# EAGLE library part LMZ14201HTZ (library parts)
TEXAS INSTRUMENTS - LMZ14201HTZ - POWER MODULE, 42V, 1A, 7TOPMOD Source: Datasheet <http://www.ti.com/lit/ds/symlink/lmz14201h.pdf>
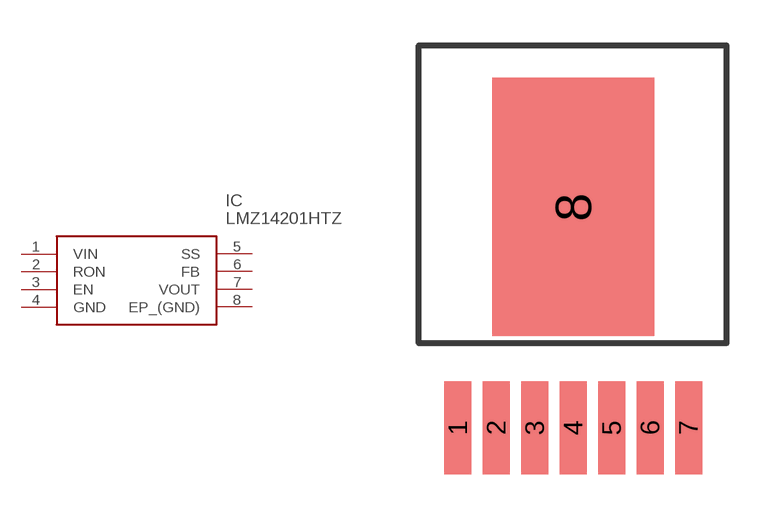
[diagram p5: symbol with the pads of NDW0007A; footprint NDW0007A]

Designator prefix IC

## LMZ14201HTZ (DESCRIPTION: TEXAS INSTRUMENTS - LMZ14201HTZ - POWER MODULE, 42V, 1A, 7TOPMOD; HEIGHT: mm; MANUFACTURER_NAME: Texas Instruments; MANUFACTURER_PART_NUMBER: LMZ14201HTZ)  [NDW0007A]
1  VIN
2  RON
3  EN
4  GND
5  SS
6  FB
7  VOUT
8  EP_(GND)

## Footprint NDW0007A (pad centres in mm)
NDW0007A
smd 0.89 x 3.06: 1 -3.81,0; 2 -2.54,0; 3 -1.27,0; 4 0,0; 5 1.27,0; 6 2.54,0; 7 3.81,0
smd 5.35 x 8.54: 8 0,7.305